# Altium schematic symbol library MF-USMF005-2.SchLib: 1 symbol
Pins are listed as number, name and electrical type; pins without a type are passive.

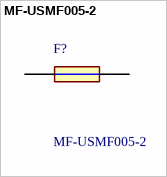
[diagram p0: symbol MF-USMF005-2]

## MF-USMF005-2
designator F?
Fuse, PTC, Resettable, SMD, 1210, 50mA Bourns 0.05A Surface Mount Resettable Fuse, 30 V; Geometry.Height: 1.1mm; Manufacturer_Name: Bourns; Manufacturer_Part_Number: MF-USMF005-2; Mouser Part Number: 652-MF-USMF005-2; Mouser Price/Stock: https://www.mouser.co.uk/ProductDetail/Bourns/MF-USMF005-2?qs=k5V78Jg%2Feq5dOnJgyb2oFg%3D%3D; Arrow Part Number: MF-USMF005-2; Arrow Price/Stock: https://www.arrow.com/en/products/mf-usmf005-2/bourns?utm_currency=USD&region=nac; Datasheet Link: https://componentsearchengine.com/Datasheets/2/MF-USMF005-2.pdf
footprint FUSC3226X110N
pins: 1, 2